# EAGLE library part 61001021821 (library Board_to_Board_Connectors_rev15d)
WR-PHD 2.54mm Dual SMT Socket Header, 10 Pins=>Code : Con_BTB_SHD_2.54_1_SMT_61001021821 <http://katalog.we-online.de/media/images/eican/Con_BTB_SHD_2.54_1_SMT_6100xx21821_pf2.jpg> Details see: http://katalog.we-online.de/en/em/610_0xx_218_21 Created 2014-06-03, Karrer Zheng 2014 (C) Würth Elektronik
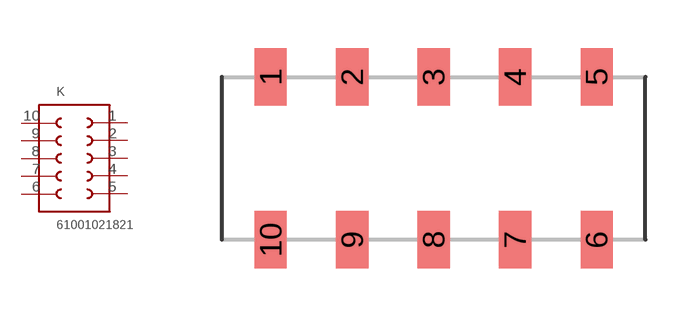
[diagram p214: symbol with the pads of 61001021821; footprint 61001021821]

Designator prefix K

## 61001021821  [61001021821]
1  1  pas
2  2  pas
3  3  pas
4  4  pas
5  5  pas
6  6  pas
7  7  pas
8  8  pas
9  9  pas
10  10  pas

## Footprint 61001021821 (pad centres in mm)
WR-PHD 2.54mm Dual SMT Socket Header, 10 Pins
smd 1 x 1.8: 1 -5.08,2.54; 2 -2.54,2.54; 3 0,2.54; 4 2.54,2.54; 5 5.08,2.54; 6 5.08,-2.54; 7 2.54,-2.54; 8 0,-2.54; 9 -2.54,-2.54; 10 -5.08,-2.54